# Altium footprint library PcbLib_Acura.PcbLib: 137 footprints (part 2 of 9)
Each footprint in its own frame and in the unit in brackets; x right, y up, seen from the top. Pads: shape width x height; smd on the part's side, far side on the other; paste and mask are expansions set on the pad; w line width, h text height; cw(c..) or ccw(c..) is an arc to the next point about the centre after c.
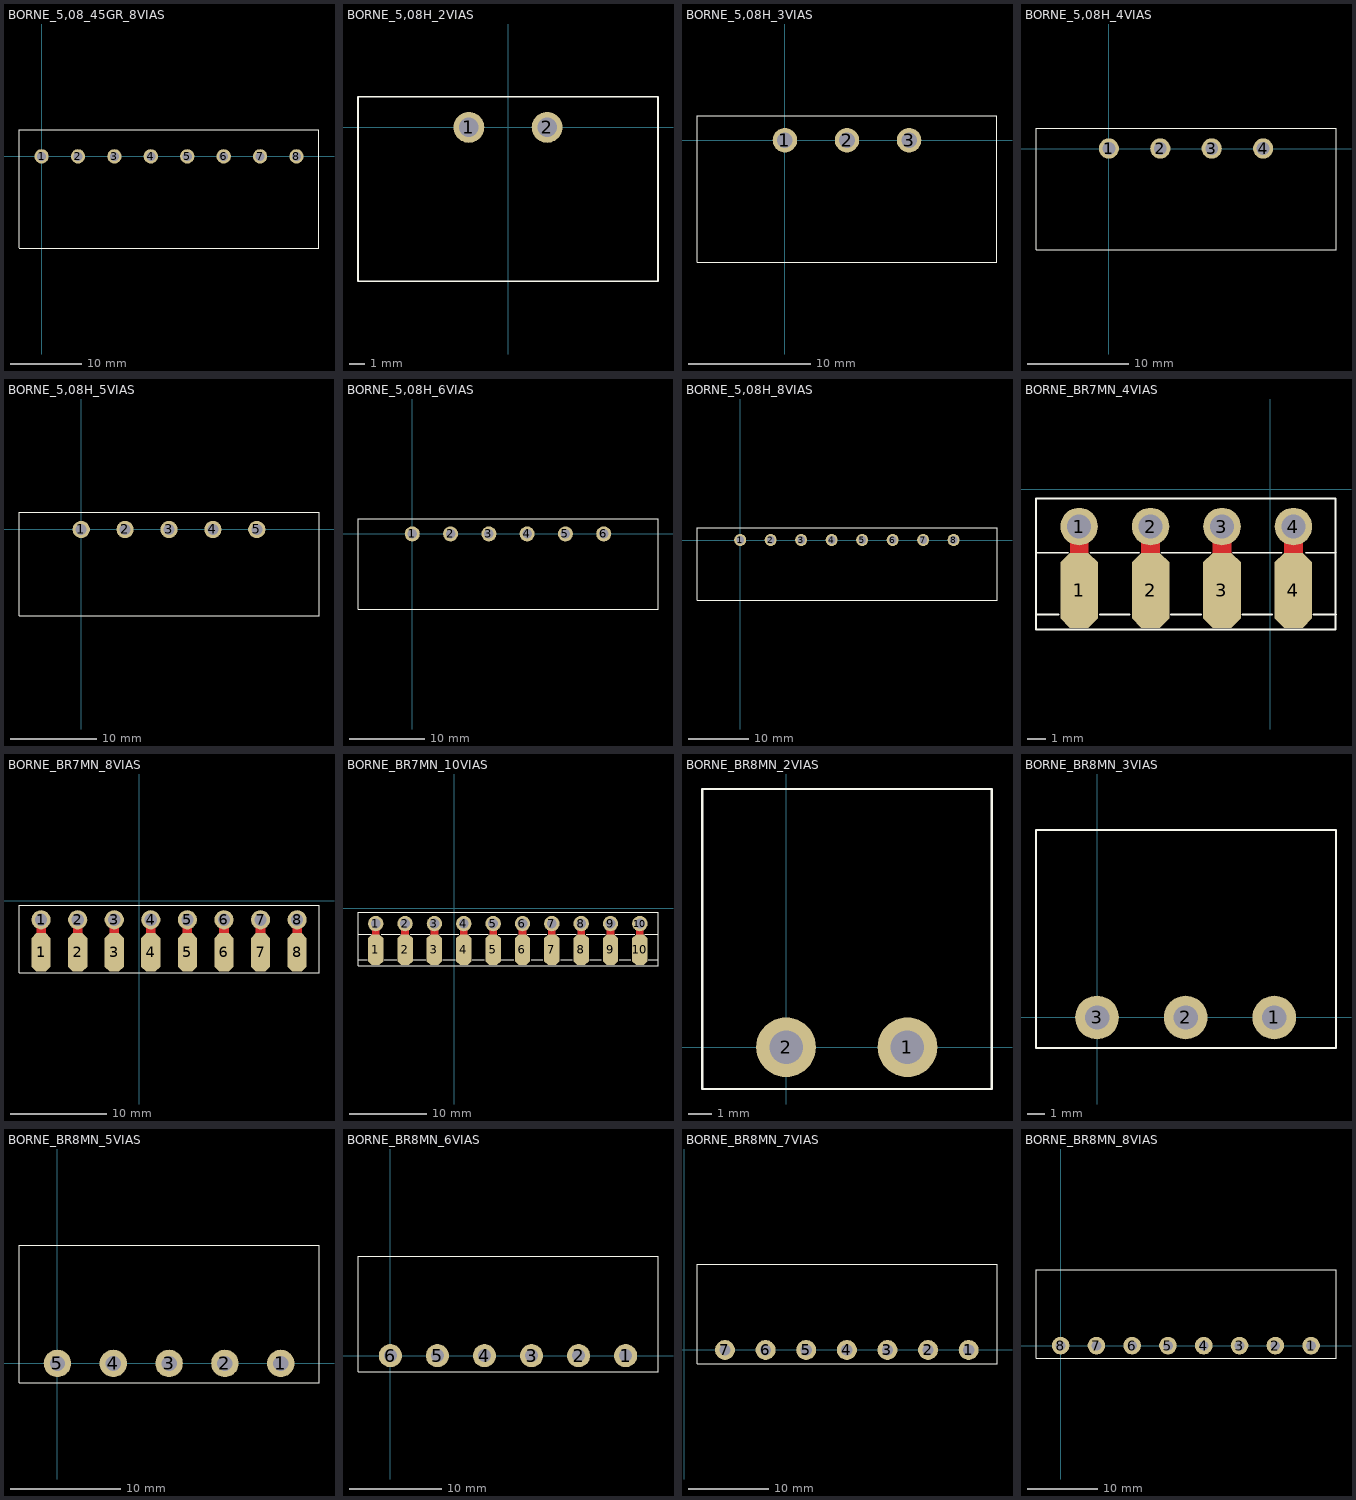
[diagram p1: the footprints below, top view; thin cyan lines are the x and y axes]

## BORNE_5,08_45GR_8VIAS [mm]
pads (8):
  round 2 hole 1.27: 1(0,0) 2(5.08,0) 3(10.16,0) 4(15.24,0) 5(20.32,0) 6(25.4,0) 7(30.48,0) 8(35.56,0)
Top Overlay:
  lines w0.1: -3.15,-12.8 38.7,-12.8 38.7,0 38.7,3.7 -3.15,3.7 -3.15,0 -3.15,-12.75

## BORNE_5,08H_2VIAS [mm]
pads (2):
  round 2 hole 1.27: 1(-2.54,0) 2(2.54,0)
Top Overlay:
  lines w0.1: 9.74,-10 -9.74,-10 -9.74,0 -9.74,2 9.74,2 ; 9.74,-9.98 9.74,0 9.74,1.98

## BORNE_5,08H_3VIAS [mm]
pads (3):
  round 2 hole 1.27: 1(0,0) 2(5.08,0) 3(10.16,0)
Top Overlay:
  lines w0.1: 17.36,-10 -7.2,-10 -7.2,0 -7.2,2 17.36,2 ; 17.36,-9.96 17.36,0 17.36,1.94

## BORNE_5,08H_4VIAS [mm]
pads (4):
  round 2 hole 1.27: 1(0,0) 2(5.08,0) 3(10.16,0) 4(15.24,0)
Top Overlay:
  lines w0.1: 22.44,-10 -7.2,-10 -7.2,0 -7.2,2 22.44,2 ; 22.44,-9.94 22.44,0 22.44,1.94

## BORNE_5,08H_5VIAS [mm]
pads (5):
  round 2 hole 1.27: 1(0,0) 2(5.08,0) 3(10.16,0) 4(15.24,0) 5(20.32,0)
Top Overlay:
  lines w0.1: 27.52,-10 -7.2,-10 -7.2,0 -7.2,2 27.52,2 ; 27.52,-9.98 27.52,0 27.52,1.98

## BORNE_5,08H_6VIAS [mm]
pads (6):
  round 2 hole 1.27: 1(0,0) 2(5.08,0) 3(10.16,0) 4(15.24,0) 5(20.32,0) 6(25.4,0)
Top Overlay:
  lines w0.1: -7.2,-10 32.6,-10 32.6,0 32.6,2 -7.2,2 -7.2,0 -7.2,-10

## BORNE_5,08H_8VIAS [mm]
pads (8):
  round 2 hole 1.27: 1(0,0) 2(5.08,0) 3(10.16,0) 4(15.24,0) 5(20.32,0) 6(25.4,0) 7(30.48,0) 8(35.56,0)
Top Overlay:
  lines w0.1: -7.2,-10 42.8,-10 42.8,0 42.8,2 -7.2,2 -7.2,0 -7.2,-10

## BORNE_BR7MN_4VIAS [mm]
pads (8):
  oct 2x4 smd: 1(-10.2,-5.4) 2(-6.39,-5.4) 3(-2.58,-5.4) 4(1.23,-5.4)
  round 2 hole 1.27: 1(-10.2,-2) 2(-6.39,-2) 3(-2.58,-2) 4(1.23,-2)
Top Layer:
  lines w1: -10.2,-5.4 -10.2,-2 ; -6.39,-5.4 -6.39,-2 ; -2.58,-5.4 -2.58,-2 ; 1.23,-5.4 1.23,-2
Top Overlay:
  lines w0.1: -12.5,-6.7 -11.3,-6.7 ; -10.8,-3.4 -12.5,-3.4 ; -9.6,-3.4 -7,-3.4 ; -9.1,-6.7 -7.5,-6.7 ; -5.8,-3.4 -3.2,-3.4 ; -5.3,-6.7 -3.7,-6.7 ; -2,-3.4 0.6,-3.4 ; -1.5,-6.7 0.1,-6.7 ; 1.9,-3.4 3.5,-3.4 ; 2.3,-6.7 3.5,-6.7 ; 3.479,-3.45 3.48,-3.449 ; 3.48,-0.55 3.48,-3.449 ; 3.48,-0.5 -12.497,-0.5 -12.5,-0.503 -12.5,-3.4 ; -12.5,-3.4 -12.5,-7.5 3.48,-7.5 3.48,-3.449

## BORNE_BR7MN_8VIAS [mm]
pads (16):
  oct 2x4 smd: 1(-10.2,-5.4) 2(-6.39,-5.4) 3(-2.58,-5.4) 4(1.23,-5.4) 5(5.04,-5.4) 6(8.85,-5.4) 7(12.66,-5.4) 8(16.47,-5.4)
  round 2 hole 1.27: 1(-10.2,-2) 2(-6.39,-2) 3(-2.58,-2) 4(1.23,-2) 5(5.04,-2) 6(8.85,-2) 7(12.66,-2) 8(16.47,-2)
Top Layer:
  lines w1: -10.2,-5.4 -10.2,-2 ; -6.39,-5.4 -6.39,-2 ; -2.58,-5.4 -2.58,-2 ; 1.23,-5.4 1.23,-2 ; 5.04,-5.4 5.04,-2 ; 8.85,-5.4 8.85,-2 ; 12.66,-5.4 12.66,-2 ; 16.47,-5.4 16.47,-2
Top Overlay:
  lines w0.1: -12.5,-7.5 18.75,-7.5 18.75,-3.299 18.75,-0.5 -12.497,-0.5 -12.5,-0.503 -12.5,-3.4 -12.5,-7.5

## BORNE_BR7MN_10VIAS [mm]
pads (20):
  oct 2x4 smd: 1(-10.2,-5.4) 2(-6.39,-5.4) 3(-2.58,-5.4) 4(1.23,-5.4) 5(5.04,-5.4) 6(8.85,-5.4) 7(12.66,-5.4) 8(16.47,-5.4) 9(20.28,-5.4) 10(24.09,-5.4)
  round 2 hole 1.27: 1(-10.2,-2) 2(-6.39,-2) 3(-2.58,-2) 4(1.23,-2) 5(5.04,-2) 6(8.85,-2) 7(12.66,-2) 8(16.47,-2) 9(20.28,-2) 10(24.09,-2)
Top Layer:
  lines w1: -10.2,-5.4 -10.2,-2 ; -6.39,-5.4 -6.39,-2 ; -2.58,-5.4 -2.58,-2 ; 1.23,-5.4 1.23,-2 ; 5.04,-5.4 5.04,-2 ; 8.85,-5.4 8.85,-2 ; 12.66,-5.4 12.66,-2 ; 16.47,-5.4 16.47,-2 ; 20.28,-5.4 20.28,-2 ; 24.09,-5.4 24.09,-2
Top Overlay:
  lines w0.1: -12.5,-6.7 -11.3,-6.7 ; -10.8,-3.4 -12.5,-3.4 ; -9.5,-3.4 -7,-3.4 ; -9.1,-6.7 -7.5,-6.7 ; -5.7,-3.4 -3.2,-3.4 ; -5.3,-6.7 -3.7,-6.7 ; -1.9,-3.4 0.6,-3.4 ; -1.5,-6.7 0.1,-6.7 ; 1.9,-3.4 4.4,-3.4 ; 2.3,-6.7 3.9,-6.7 ; 5.7,-3.4 8.2,-3.4 ; 6.1,-6.7 7.7,-6.7 ; 9.5,-3.4 12,-3.4 ; 10,-6.7 11.5,-6.7 ; 13.3,-3.4 15.8,-3.4 ; 13.8,-6.7 15.3,-6.7 ; 17.1,-3.4 19.6,-3.4 ; 17.6,-6.7 19.1,-6.7 ; 20.9,-3.4 23.4,-3.4 ; 21.4,-6.7 22.9,-6.7 ; 24.7,-3.4 26.4,-3.4 ; 25.2,-6.7 26.4,-6.7 ; 26.44,-3.4 26.441,-3.399 ; 26.441,-7.5 -12.5,-7.5 -12.5,-3.4 ; 26.441,-7.475 26.441,-3.399 ; -12.5,-3.4 -12.5,-0.503 -12.497,-0.5 26.441,-0.5 26.441,-3.399

## BORNE_BR8MN_2VIAS [mm]
pads (2):
  round 2.5 hole 1.4: 1(5.08,0) 2(0,0)
Top Overlay:
  lines w0.1: -3.5,-1.75 -3.5,10.8 8.6,10.8 8.6,-1.75 -3.5,-1.75

## BORNE_BR8MN_3VIAS [mm]
pads (3):
  round 2.5 hole 1.4: 1(10.16,0) 2(5.08,0) 3(0,0)
Top Overlay:
  lines w0.1: 13.7,10.69 13.7,-1.75 -3.5,-1.75 -3.5,10.75 13.7,10.75

## BORNE_BR8MN_5VIAS [mm]
pads (5):
  round 2.5 hole 1.4: 1(20.32,0) 2(15.24,0) 3(10.16,0) 4(5.08,0) 5(0,0)
Top Overlay:
  lines w0.1: -3.5,-1.75 -3.5,10.75 23.8,10.75 23.8,-1.75 -3.5,-1.75

## BORNE_BR8MN_6VIAS [mm]
pads (6):
  round 2.5 hole 1.4: 1(25.4,0) 2(20.32,0) 3(15.24,0) 4(10.16,0) 5(5.08,0) 6(0,0)
Top Overlay:
  lines w0.1: -3.5,-1.75 28.9,-1.75 28.9,10.75 -3.5,10.75 -3.5,-1.75

## BORNE_BR8MN_7VIAS [mm]
pads (7):
  round 2.5 hole 1.4: 1(35.56,0) 2(30.48,0) 3(25.4,0) 4(20.32,0) 5(15.24,0) 6(10.16,0) 7(5.08,0)
Top Overlay:
  lines w0.1: 1.58,-1.75 39.1,-1.75 39.1,10.75 1.58,10.75 1.58,-1.75

## BORNE_BR8MN_8VIAS [mm]
pads (8):
  round 2.5 hole 1.4: 1(35.56,0) 2(30.48,0) 3(25.4,0) 4(20.32,0) 5(15.24,0) 6(10.16,0) 7(5.08,0) 8(0,0)
Top Overlay:
  lines w0.1: -3.5,-1.75 39.1,-1.75 39.1,10.75 -3.5,10.75 -3.5,-1.75